# Altium schematic symbol library Linear Regulator.SchLib: 15 symbols
Pins are listed as number, name and electrical type; pins without a type are passive.

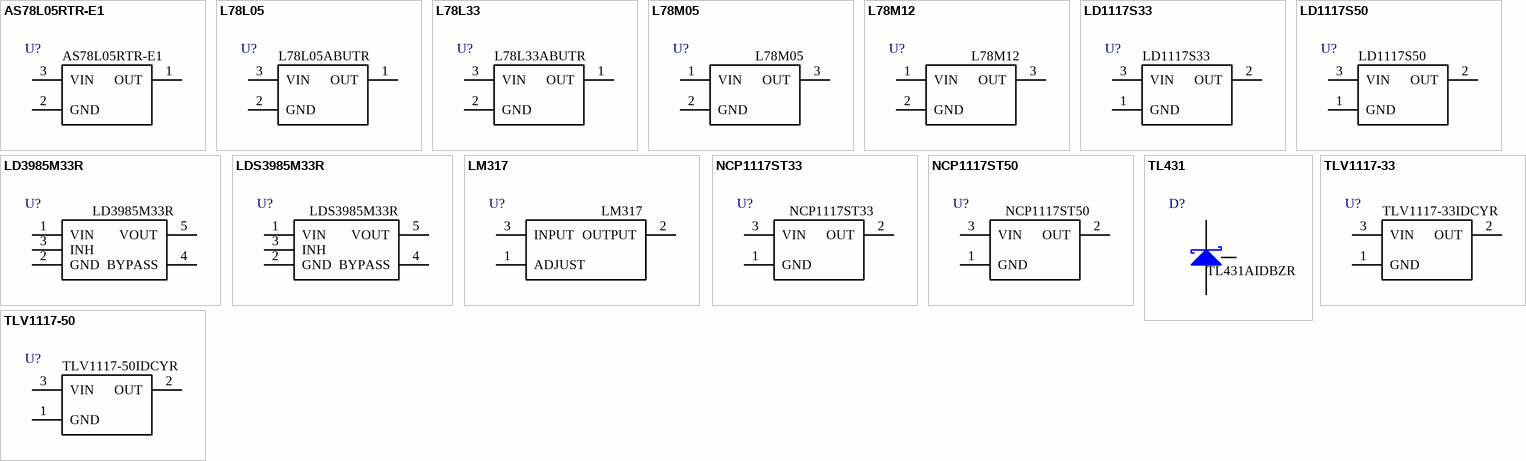
[diagram p0: symbols AS78L05RTR-E1 to TLV1117-50]

## AS78L05RTR-E1
designator U?  Global part number: AS78L05RTR-E1
Linear Regulator; Manufacture: DIODES; Size: SOT-89; Mount type: SMT
footprint SOT-89
pins: 1 OUT (power), 2 GND, 3 VIN (power)

## L78L05
designator U?  Global part number: L78L05ABUTR
Linear Regulator; Manufacture: STMicroelectronics; Size: SOT-89; Mount type: SMT
footprint SOT-89
pins: 1 OUT (power), 2 GND, 3 VIN (power)

## L78L33
designator U?  Global part number: L78L33ABUTR
Linear Regulator; Manufacture: STMicroelectronics; Size: SOT-89; Mount type: SMT
footprint SOT-89
pins: 1 OUT (power), 2 GND, 3 VIN (power)

## L78M05
designator U?  Global part number: L78M05
Linear Regulator; Manufacture: STMicroelectronics; Size: DPAK(TO252-2); Mount type: SMT
footprint DPAK-2
footprint TO252-2
pins: 1 VIN (power), 2 GND, 3 OUT (power)

## L78M12
designator U?  Global part number: L78M12
Linear Regulator; Manufacture: STMicroelectronics; Size: DPAK(TO252-2); Mount type: SMT
footprint TO252-2
footprint DPAK-2
pins: 1 VIN (power), 2 GND, 3 OUT (power)

## LD1117S33
designator U?  Global part number: LD1117S33
Linear Regulator; Manufacture: STMicroelectronics; Size: SOT-223; Mount type: SMT
footprint SOT-223
pins: 1 GND, 2 OUT (power), 3 VIN (power)

## LD1117S50
designator U?  Global part number: LD1117S50
Linear Regulator; Manufacture: STMicroelectronics; Size: SOT-223; Mount type: SMT
footprint SOT-223
pins: 1 GND, 2 OUT (power), 3 VIN (power)

## LD3985M33R
designator U?  Global part number: LD3985M33R
Linear Regulator; Manufacture: STMicroelectronics; Size: SOT23-5; Mount type: SMT
footprint SOT23-5
pins: 1 VIN, 2 GND, 3 INH, 4 BYPASS, 5 VOUT

## LDS3985M33R
designator U?  Global part number: LDS3985M33R
Linear Regulator; Manufacture: STMicroelectronics; Size: SOT23-5; Mount type: SMT
footprint SOT23-5
pins: 1 VIN, 2 GND, 3 INH, 4 BYPASS, 5 VOUT

## LM317
designator U?  Global part number: LM317
Linear Regulator; Manufacture: Texas Instruments; Size1: SOT-223; Size2: TO-220-3; Mount type: SMT
footprint SOT-223
footprint TO-220-3
pins: 1 ADJUST, 2 OUTPUT (power), 3 INPUT (power)

## NCP1117ST33
designator U?  Global part number: NCP1117ST33
Linear Regulator; Manufacture: ON Semiconductor; Size: SOT-223; Mount type: SMT
footprint SOT-223
pins: 1 GND, 2 OUT (power), 3 VIN (power)

## NCP1117ST50
designator U?  Global part number: NCP1117ST50
Linear Regulator; Manufacture: ON Semiconductor; Size: SOT-223; Mount type: SMT
footprint SOT-223
pins: 1 GND, 2 OUT (power), 3 VIN (power)

## TL431
designator D?  Global part number: TL431AIDBZR
Voltage Reference; Manufacture: Texas Instruments; Size: SOT23; Mount type: SMT
footprint SOT23
pins: 1 K, 2 A, 3 VERF

## TLV1117-33
designator U?  Global part number: TLV1117-33IDCYR
Linear Regulator; Manufacture: Texas Instruments; Size: SOT-223; Mount type: SMT
footprint SOT-223
pins: 1 GND, 2 OUT (power), 3 VIN (power)

## TLV1117-50
designator U?  Global part number: TLV1117-50IDCYR
Linear Regulator; Manufacture: Texas Instruments; Size: SOT-223; Mount type: SMT
footprint SOT-223
pins: 1 GND, 2 OUT (power), 3 VIN (power)